# Altium footprint library COOLCONTROL.PcbLib: 95 footprints (part 2 of 6)
Each footprint in its own frame and in the unit in brackets; x right, y up, seen from the top. Pads: shape width x height; smd on the part's side, far side on the other; paste and mask are expansions set on the pad; w line width, h text height; cw(c..) or ccw(c..) is an arc to the next point about the centre after c.
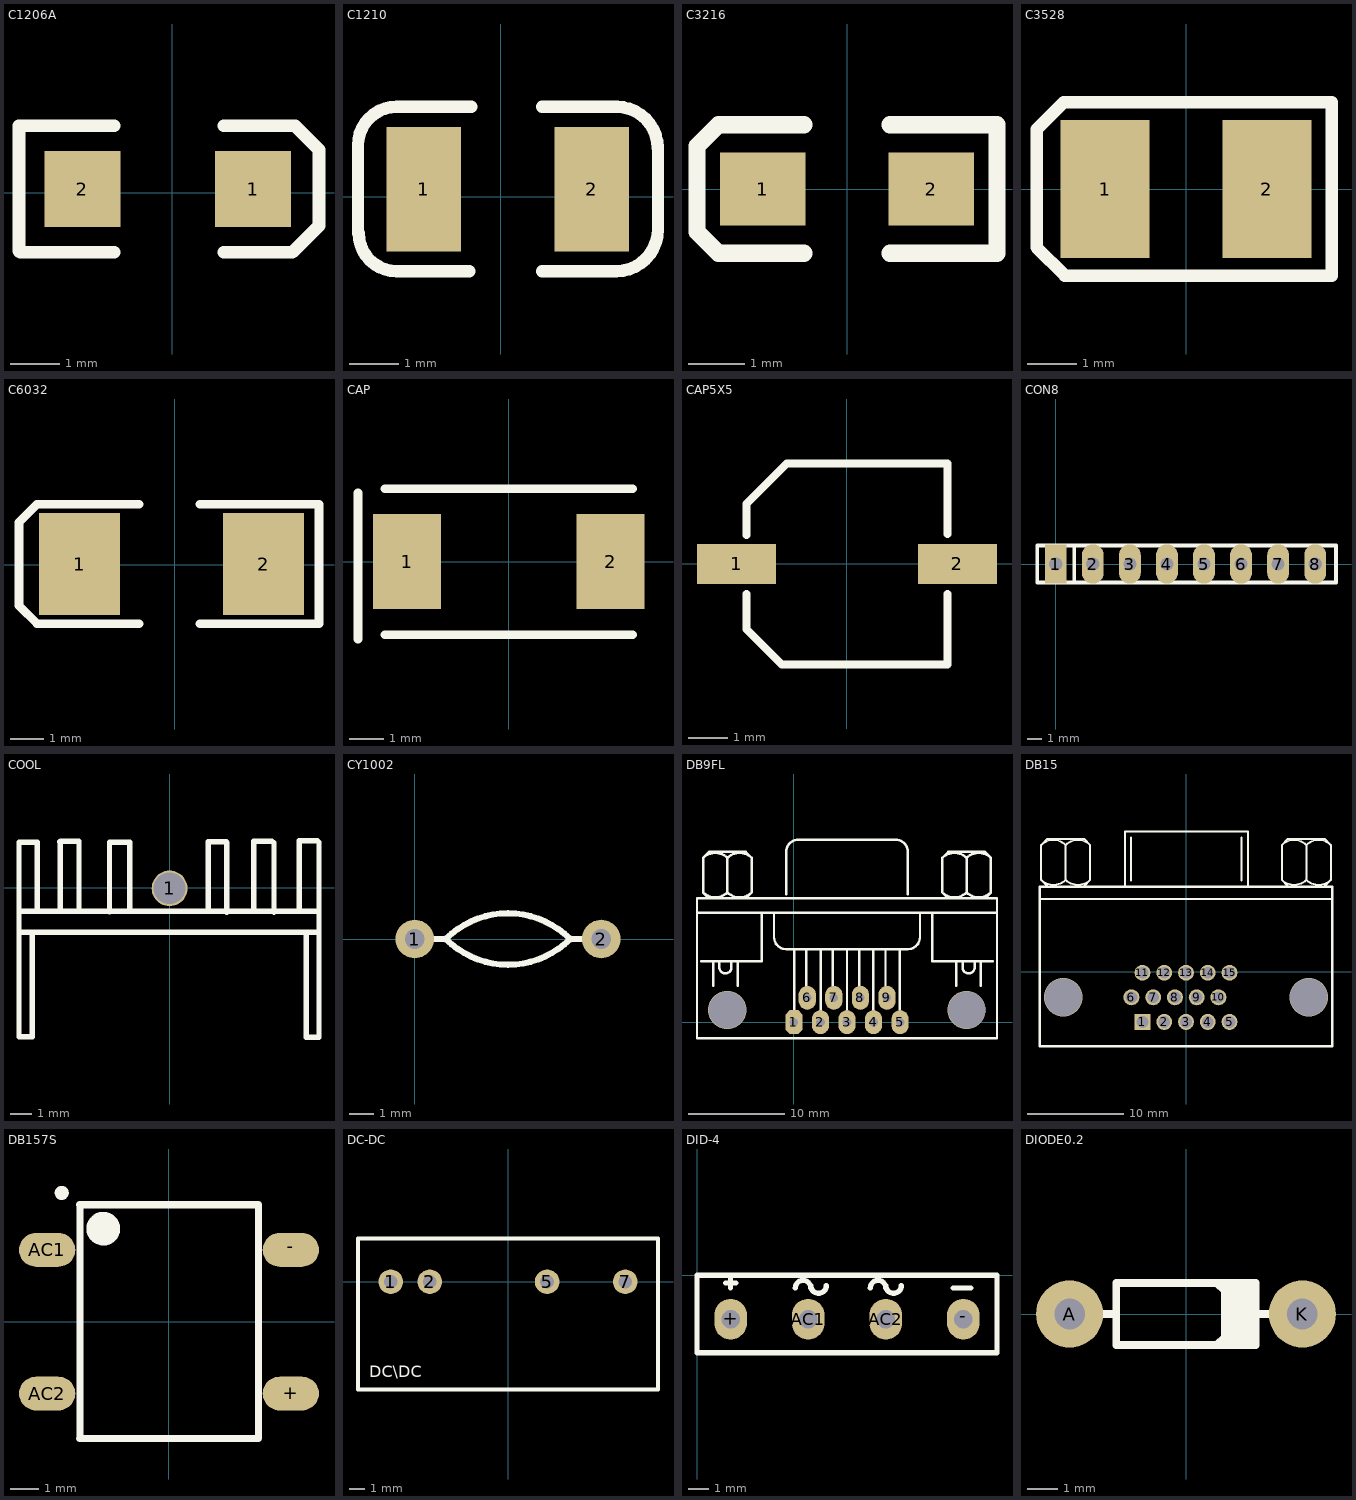
[diagram p1: the footprints below, top view; thin cyan lines are the x and y axes]

## C1206A [mil] "3216/A型"
pads (2):
  rect 60x60 smd: 1(64,3) 2(-71,3)
Top Overlay:
  lines w10: -121,53 -121,-46 -120,-47 -46,-47 ; -120,53 -46,53 ; 41,-47 94,-47 ; 41,53 95,53 ; 94,53 97,53 116,34 116,-26 95,-47
3D body "Capacitor 1206 SMD1.step": height 39.45, standoff 0, extent -66.99,-28.49 59,34.5

## C1210 [mil]
pads (2):
  rect 60x100 smd: 1(-62,6) 2(73,6)
Top Overlay:
  lines w10: -114.8,-29.36 -114.8,41.08 cw(c-83.75,41.08) -83.75,72.13 ; -114.27,-29.36 ccw(c-83.63,-29.36) -83.63,-60 -25.3,-60 ; -83.75,72 -24,72 ; 33,-60 92.52,-60 ccw(c92.52,-26.32) 126.2,-26.32 126.2,39.82 ; 33,72 93.32,72 ; 93,72 cw(c93,39.12) 125.88,39.12
3D body "1210(3225M) Cap.STEP": height 67.1, standoff 0, extent -72.74,-43.99 84.76,54.01

## C3216 [mil] "A型/1206"
pads (2):
  rect 60x51.18 smd: 1(-59,0) 2(59,0)
Top Overlay:
  lines w12: -30,-45 -90,-45 -105,-30 -105,30 -90,45 -30,45 ; 30,-45 105,-45 105,45 30,45
3D body "TAJ-A.STEP": height 62.99, standoff 0, extent -63,-31 62.99,32

## C3528 [mil] "B型"
pads (2):
  rect 70.87x110 smd: 1(-64.5,0) 2(64.5,0)
Top Overlay:
  lines w10: -119,-46.5 -119,47.5 -97.5,69 116,69 116,-69 -96.5,-69 -119,-46.5
3D body "TAJ-B.STEP": height 74.8, standoff 0, extent -68.89,-55.11 68.9,55.12

## C6032 [mil] "C型"
pads (2):
  rect 95x120 smd: 1(-112,1) 2(104,1)
Top Overlay:
  lines w10: -42,-69 -156,-69 -162,-69 -183,-48 -183,50 -163,70 -162,71 -42,71 ; 29,-69 169,-69 169,71 29,71
3D body "TAJ-C.STEP": height 102.36, standoff 0, extent -121.1,-61.99 115.11,64

## CAP [mm]
pads (2):
  rect 2x2.8 smd: 1(-3,0) 2(3,0)
Top Overlay:
  lines w0.254: -4.445,-2.286 -4.445,2.032 ; -3.65,-2.15 3.65,-2.15 ; -3.65,2.15 3.65,2.15

## CAP5X5 [mm]
pads (2):
  rect 2x1 smd: 1(-2.794,0) 2(2.794,0)
Top Overlay:
  lines w0.2: -2.54,-0.762 -2.54,-1.651 -1.651,-2.54 2.54,-2.54 2.54,-0.762 ; -2.54,0.73 -2.54,1.524 -1.524,2.54 2.54,2.54 2.54,0.762
3D body "SL-B.STEP": height 5.2, standoff 0, extent -2.274,-2.15 2.326,2.15

## CON8 [mm]
pads (8):
  rect 1.5x2.7 hole 0.9: 1(0,0)
  oval 1.5x2.7 hole 0.9: 2(2.54,0) 3(5.08,0) 4(7.62,0) 5(10.16,0) 6(12.7,0) 7(15.24,0) 8(17.78,0)
Top Overlay:
  lines w0.254: 1.27,-1.27 1.27,1.27 ; -1.27,-1.27 19.202,-1.27 19.202,1.27 -1.27,1.27 -1.27,-1.27

## COOL [mm]
pads (1):
  round 1.7 hole 1.5: 1(0,-0.025)
Top Overlay:
  lines w0.254: -7.112,-2.108 -7.137,-2.134 -7.137,-7.061 -6.502,-7.061 -6.502,-2.159 ; -7.112,-1.118 -0.127,-1.118 7.087,-1.118 ; -6.274,-1.067 -6.274,2.159 -7.137,2.159 -7.137,-2.108 0,-2.108 7.087,-2.108 7.087,2.159 ; -5.207,2.184 -5.182,2.184 -5.182,-1.118 ; -5.156,2.21 -4.293,2.21 -4.293,-1.016 ; -2.845,-1.143 -2.845,2.159 ; -2.743,2.159 -1.88,2.159 -1.88,-1.067 ; 1.829,-1.041 1.829,2.184 2.692,2.184 ; 2.718,-1.168 2.718,2.134 ; 3.988,-1.016 3.988,2.21 4.851,2.21 ; 4.953,-1.168 4.953,2.134 ; 6.147,-0.991 6.147,2.235 7.01,2.235 ; 6.477,-2.134 6.477,-7.087 7.087,-7.087 7.087,-2.184

## CY1002 [mil]
pads (2):
  round 62 hole 32: 1(0,0) 2(300,0)
Top Overlay:
  lines w10: 0,0 50,0 ; 300,0 250,0 ; 50,0 cw(c150,-100) 250,0 ; 50,0 ccw(c150,100) 250,0

## DB9FL [mm]
pads (9):
  oct 1.8x2.5 hole 0.9: 1(0,0)
  oval 1.8x2.5 hole 0.9: 2(2.773,0) 3(5.546,0) 4(8.318,0) 5(11.091,0) 6(1.397,2.54) 7(4.17,2.54) 8(6.943,2.54) 9(9.715,2.54)
via -6.964,1.27 diameter 4 hole 3.9
via 18.034,1.27 diameter 4 hole 3.9
Top Overlay:
  lines w0.254: -10.118,11.43 21.209,11.43 ; -9.694,6.35 -3.344,6.35 -3.344,11.43 ; -9.485,13.545 ccw(c-8.213,14.817) -6.94,13.545 ; -9.485,17.147 cw(c-8.213,15.875) -6.94,17.147 ; -8.848,12.912 -9.483,13.547 -9.483,17.145 -8.848,17.78 -5.038,17.78 -4.403,17.145 -4.403,13.547 -5.038,12.912 ; -8.424,3.81 -8.424,6.35 ; -7.789,6.35 -7.789,5.715 ccw(c-7.154,5.715) -6.519,5.715 -6.519,6.35 ; -6.945,13.545 ccw(c-5.673,14.817) -4.4,13.545 ; -6.945,17.147 cw(c-5.673,15.875) -4.4,17.147 ; -6.943,13.547 -6.943,17.145 ; -5.884,3.81 -5.884,6.35 ; -2.074,11.43 -2.074,8.89 ccw(c-0.804,8.89) -0.804,7.62 11.896,7.62 ccw(c11.896,8.89) 13.166,8.89 13.166,11.43 ; -0.804,13.335 -0.804,17.78 cw(c0.466,17.78) 0.466,19.05 10.626,19.05 cw(c10.626,17.78) 11.896,17.78 11.896,13.335 ; 0.042,1.27 0.042,7.62 ; 1.312,3.81 1.312,7.62 ; 2.794,1.27 2.794,7.62 ; 4.064,3.81 4.064,7.62 ; 5.546,1.27 5.546,7.62 ; 6.816,3.81 6.816,7.62 ; 8.297,1.27 8.297,7.62 ; 9.567,3.81 9.567,7.62 ; 11.049,1.27 11.049,7.62 ; 14.436,11.43 14.436,6.35 20.786,6.35 ; 15.492,13.545 ccw(c16.764,14.817) 18.036,13.545 ; 15.492,17.147 cw(c16.764,15.875) 18.036,17.147 ; 16.129,12.912 15.494,13.547 15.494,17.145 16.129,17.78 19.939,17.78 20.574,17.145 20.574,13.547 19.939,12.912 ; 16.976,3.81 16.976,6.35 ; 17.611,6.35 17.611,5.715 ccw(c18.246,5.715) 18.881,5.715 18.881,6.35 ; 18.032,13.545 ccw(c19.304,14.817) 20.576,13.545 ; 18.032,17.147 cw(c19.304,15.875) 20.576,17.147 ; 18.034,13.547 18.034,17.145 ; 19.516,3.81 19.516,6.35 ; -10.118,-1.693 -10.118,12.912 21.209,12.912 21.209,-1.693 -10.118,-1.693

## DB15 [mil]
pads (15):
  rect 65x65 hole 48: 1(-178.16,-205)
  round 65 hole 48: 2(-89.58,-205) 3(-1,-205) 4(87.58,-205) 5(176.16,-205) 6(-223.17,-105) 7(-134.58,-105) 8(-46,-105) 9(42.58,-105) 10(131.16,-105) 11(-178.16,-5) 12(-89.58,-5) 13(-1,-5) 14(87.58,-5) 15(176.16,-5)
via 499,-105 diameter 157.48 hole 153.54
via -501,-105 diameter 157.48 hole 153.54
Top Overlay:
  lines w8: -597.25,295 594,295 ; -591.09,373.25 ccw(c-541,423.33) -490.91,373.25 ; -591.09,515.09 cw(c-541,465) -490.91,515.09 ; -566,348.33 -591,373.33 -591,515 -566,540 -416,540 -391,515 -391,373.33 -416,348.33 ; -491.09,373.25 ccw(c-441,423.33) -390.91,373.25 ; -491.09,515.09 cw(c-441,465) -390.91,515.09 ; -491,373.33 -491,515 ; -249.33,345 -249.33,570 250.67,570 250.67,345 ; -224.33,370 -224.33,545 ; 225.67,370 225.67,545 ; 388.91,373.25 ccw(c439,423.33) 489.09,373.25 ; 388.91,515.09 cw(c439,465) 489.09,515.09 ; 414,348.33 389,373.33 389,515 414,540 564,540 589,515 589,373.33 564,348.33 ; 488.91,373.25 ccw(c539,423.33) 589.09,373.25 ; 488.91,515.09 cw(c539,465) 589.09,515.09 ; 489,373.33 489,515
  lines w10: -596,-305 -596,345 594,345 594,-305 -596,-305

## DB157S [mm]
pads (4):
  oval 2x1.2 smd: +(4.325,-2.55) -(4.325,2.55) AC1(-4.325,2.55) AC2(-4.325,-2.55)
Top Overlay:
  circle w0.25: c-3.808,4.572 r0.125
  circle w0.6: c-2.332,3.302 r0.3
  lines w0.254: -3.175,-4.15 3.175,-4.15 3.175,4.15 -3.175,4.15 ; -3.157,-4.15 -3.157,4.15

## DC-DC [mm]
pads (4):
  round 1.6 hole 0.889: 1(-7.62,0) 2(-5.08,0) 5(2.54,0) 7(7.62,0)
Top Overlay:
  lines w0.254: -9.75,-7 9.75,-7 9.75,2.8 -9.75,2.8 -9.75,-7
  text "DC\DC" at -9.017,-6.223 h0.76

## DID-4 [mm]
pads (4):
  oval 1.6x2 hole 0.9: +(1.651,-2.159) -(13.081,-2.159) AC1(5.461,-2.159) AC2(9.271,-2.159)
Top Overlay:
  lines w0.254: 1.397,-0.381 1.905,-0.381 ; 1.651,-0.635 1.651,-0.127 ; 4.826,-0.635 cw(c5.207,-0.635) 5.588,-0.635 ; 5.588,-0.508 ccw(c5.969,-0.508) 6.35,-0.508 ; 8.509,-0.635 cw(c8.89,-0.635) 9.271,-0.635 ; 9.271,-0.508 ccw(c9.652,-0.508) 10.033,-0.508 ; 12.573,-0.635 13.462,-0.635 ; 0,-3.81 0,0 14.732,0 14.732,-3.81 0,-3.81

## DIODE0.2 [mm]
pads (2):
  round 2.2 hole 1: A(-3.81,0) K(3.81,0)
Top Overlay:
  rectangle: 1.27,-1.016 2.286,1.016
  lines w0.254: -2.794,0 -2.286,0 ; 1.016,-1.016 1.27,-0.762 ; 1.016,1.016 1.27,0.762 ; 1.27,-1.016 1.27,1.016 ; 2.286,0 2.794,0 ; -2.286,-1.016 2.286,-1.016 2.286,1.016 -2.286,1.016 -2.286,-1.016